# Altium footprint library YAGEO_PNP300.PcbLib: 1 footprints
Each footprint in its own frame and in the unit in brackets; x right, y up, seen from the top. Pads: shape width x height; smd on the part's side, far side on the other; paste and mask are expansions set on the pad; w line width, h text height; cw(c..) or ccw(c..) is an arc to the next point about the centre after c.
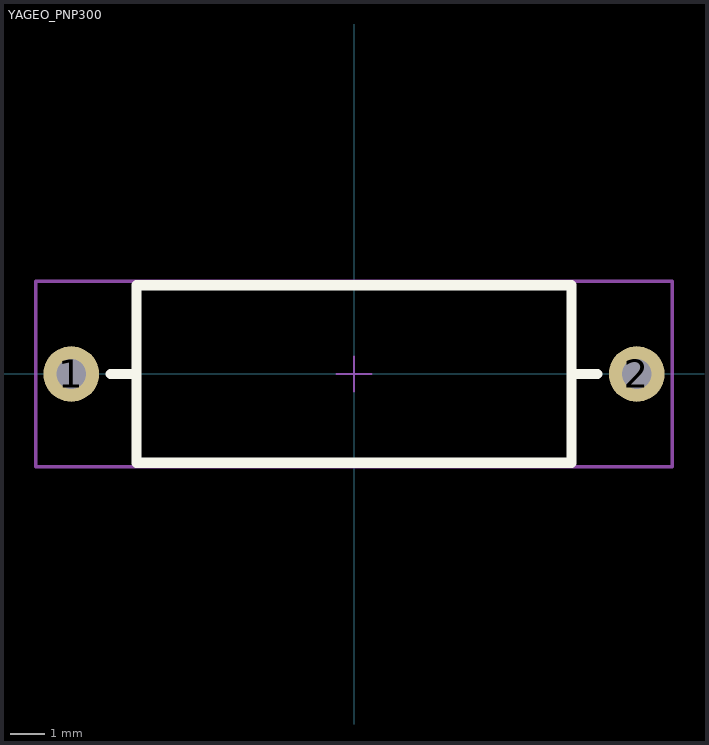
[diagram p0: the footprint, top view; thin cyan lines are the x and y axes]

## YAGEO_PNP300 [mm] "YAGEO_PNP300"
height 5.1
pads (2):
  round 1.6 hole 0.85 mask+0.05: 1(-8.128,0) 2(8.128,0)
Top Overlay:
  lines w0.3: -6.985,0 -6.25,0 ; 6.25,0 6.985,0 ; -6.25,-2.55 -6.25,2.55 6.25,2.55 6.25,-2.55 -6.25,-2.55
Mechanical 13:
  lines w0.1: -6.25,-2.55 6.25,-2.55 6.25,2.55 -6.25,2.55 -6.25,-2.55
Mechanical 15:
  lines w0.05: -0.5,0 0.5,0 ; 0,-0.5 0,0.5
  lines w0.1: -9.144,-2.667 -9.144,2.667 9.144,2.667 9.144,-2.667 -9.144,-2.667
3D body "YAGEO_PNP300.STEP": height 5.1, standoff -29.45, extent -8.55,-2.55 8.55,2.55